# EAGLE library part SHIFT_REGISTER-SIPO (library 000_CustomPartsMaster)
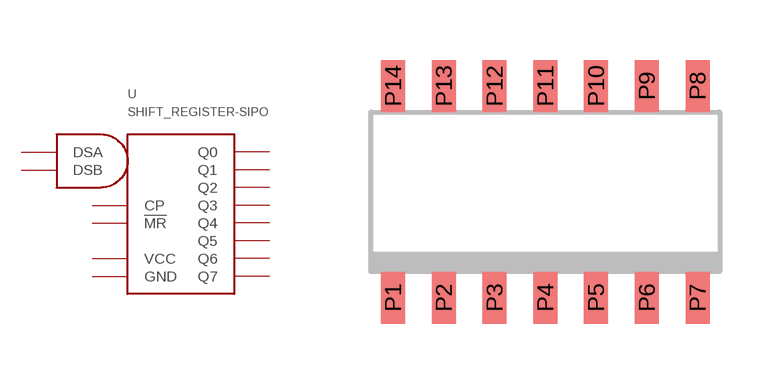
[diagram p17: symbol with the pads of SO14; footprint SO14]

Designator prefix -

## SHIFT_REGISTER-SIPO  [SO14]
P1  DSA
P2  DSB
P3  Q0
P4  Q1
P5  Q2
P6  Q3
P7  GND
P8  CP
P9  !MR
P10  Q4
P11  Q5
P12  Q6
P13  Q7
P14  VCC

## Footprint SO14 (pad centres in mm)
smd 0.6 x 1.3: P1 -3.81,-2.65; P2 -2.54,-2.65; P3 -1.27,-2.65; P4 0,-2.65; P5 1.27,-2.65; P6 2.54,-2.65; P7 3.81,-2.65; P8 3.81,2.65; P9 2.54,2.65; P10 1.27,2.65; P11 0,2.65; P12 -1.27,2.65; P13 -2.54,2.65; P14 -3.81,2.65